# EAGLE library part MICRO_MATE-N-LOCK_18_2_ROW_RIGHT_ANGLE_SURFACE (library con-tyco-micro-mate-n-lok-old)
1-794638-8
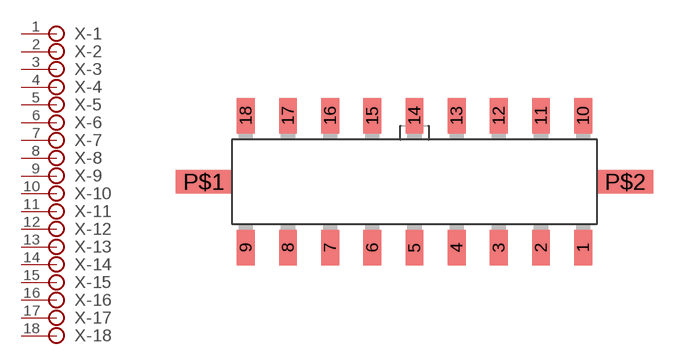
[diagram p10: symbol with the pads of MICRO_MATE-N-LOCK_18_2_ROW_RIGHT_ANGLE_SURFACE; footprint MICRO_MATE-N-LOCK_18_2_ROW_RIGHT_ANGLE_SURFACE]

Designator prefix X; gates -9=PIN -8=PIN -7=PIN -6=PIN -5=PIN -4=PIN -3=PIN -2=PIN -1=PIN -10=PIN -11=PIN -12=PIN -13=PIN -14=PIN -15=PIN -16=PIN -17=PIN -18=PIN

## MICRO_MATE-N-LOCK_18_2_ROW_RIGHT_ANGLE_SURFACE  [MICRO_MATE-N-LOCK_18_2_ROW_RIGHT_ANGLE_SURFACE]
1  -1:P$1
2  -2:P$1
3  -3:P$1
4  -4:P$1
5  -5:P$1
6  -6:P$1
7  -7:P$1
8  -8:P$1
9  -9:P$1
10  -10:P$1
11  -11:P$1
12  -12:P$1
13  -13:P$1
14  -14:P$1
15  -15:P$1
16  -16:P$1
17  -17:P$1
18  -18:P$1

## Footprint MICRO_MATE-N-LOCK_18_2_ROW_RIGHT_ANGLE_SURFACE (pad centres in mm)
smd 1.27 x 2.54: 1 12,-4.7; 2 9,-4.7; 3 6,-4.7; 4 3,-4.7; 5 0,-4.7; 6 -3,-4.7; 7 -6,-4.7; 8 -9,-4.7; 9 -12,-4.7; 10 12,4.7; 11 9,4.7; 12 6,4.7; 13 3,4.7; 14 0,4.7; 15 -3,4.7; 16 -6,4.7; 17 -9,4.7; 18 -12,4.7
smd 4 x 1.7: P$1 -15,0; P$2 15,0